# EAGLE library part XCV600E_FG900 (library xilinx-xcv)
xcv600e_fg900 edit this description Auto generated by make-symbol-device-package-bsdl.ulp Rev. 26 Source: xcv600e_fg900.bsd
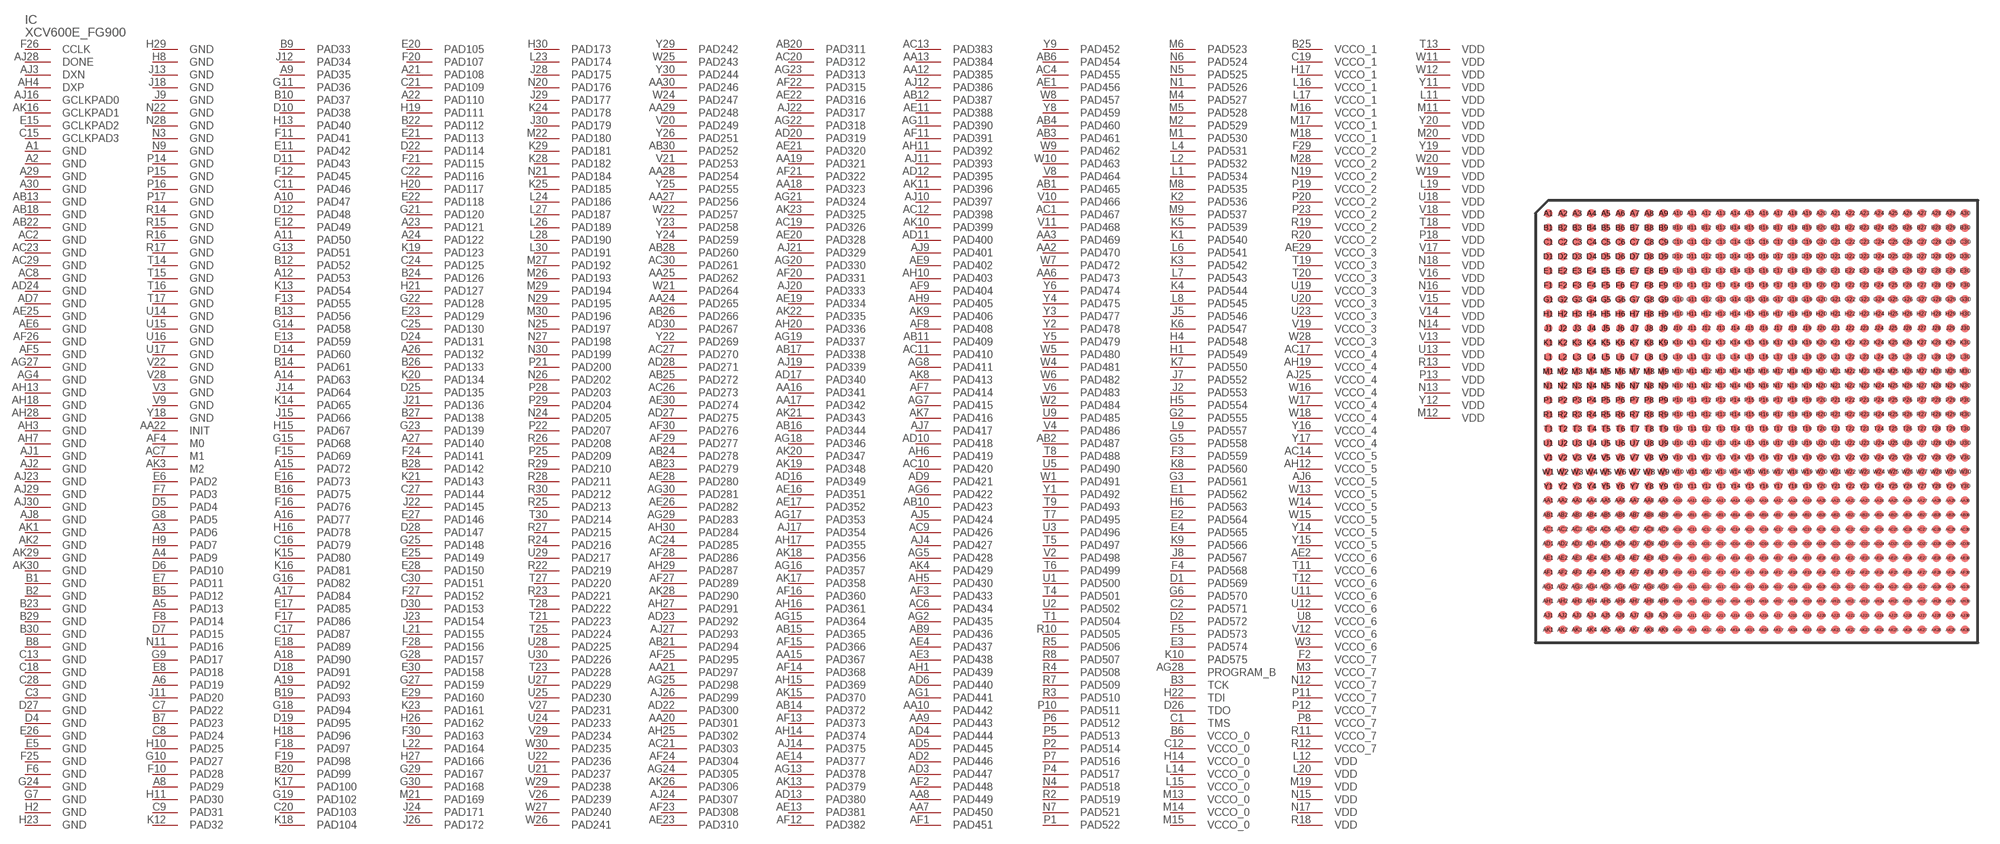
[diagram p118: symbol with the pads of FG900; footprint FG900]

Designator prefix IC

## XCV600E_FG900 (OC_FARNELL: unknown; OC_NEWARK: unknown)  [FG900]
A1  GND  pwr
A2  GND  pwr
A3  PAD6
A4  PAD9
A5  PAD13
A6  PAD19
A8  PAD29
A9  PAD35
A10  PAD47
A11  PAD50
A12  PAD53
A14  PAD63
A15  PAD72
A16  PAD77
A17  PAD84
A18  PAD90
A19  PAD92
A21  PAD108
A22  PAD110
A23  PAD121
A24  PAD122
A26  PAD132
A27  PAD140
A29  GND  pwr
A30  GND  pwr
AA2  PAD470
AA3  PAD469
AA6  PAD473
AA7  PAD450
AA8  PAD449
AA9  PAD443
AA10  PAD442
AA12  PAD385
AA13  PAD384
AA15  PAD367
AA16  PAD341
AA17  PAD342
AA18  PAD323
AA19  PAD321
AA20  PAD301
AA21  PAD297
AA22  INIT
AA24  PAD265
AA25  PAD262
AA27  PAD256
AA28  PAD254
AA29  PAD248
AA30  PAD246
AB1  PAD465
AB2  PAD487
AB3  PAD461
AB4  PAD460
AB6  PAD454
AB9  PAD436
AB10  PAD423
AB11  PAD409
AB12  PAD387
AB13  GND  pwr
AB14  PAD372
AB15  PAD365
AB16  PAD344
AB17  PAD338
AB18  GND  pwr
AB20  PAD311
AB21  PAD294
AB22  GND  pwr
AB23  PAD279
AB24  PAD278
AB25  PAD272
AB26  PAD266
AB28  PAD260
AB30  PAD252
AC1  PAD467
AC2  GND  pwr
AC4  PAD455
AC6  PAD434
AC7  M1  in
AC8  GND  pwr
AC9  PAD426
AC10  PAD420
AC11  PAD410
AC12  PAD398
AC13  PAD383
AC14  VCCO_5  pwr
AC17  VCCO_4  pwr
AC19  PAD326
AC20  PAD312
AC21  PAD303
AC23  GND  pwr
AC24  PAD285
AC26  PAD273
AC27  PAD270
AC29  GND  pwr
AC30  PAD261
AD2  PAD446
AD3  PAD447
AD4  PAD444
AD5  PAD445
AD6  PAD440
AD7  GND  pwr
AD9  PAD421
AD10  PAD418
AD11  PAD400
AD12  PAD395
AD13  PAD380
AD16  PAD349
AD17  PAD340
AD20  PAD319
AD22  PAD300
AD23  PAD292
AD24  GND  pwr
AD27  PAD275
AD28  PAD271
AD30  PAD267
AE1  PAD456
AE2  VCCO_6  pwr
AE3  PAD438
AE4  PAD437
AE6  GND  pwr
AE9  PAD402
AE11  PAD388
AE13  PAD381
AE14  PAD377
AE16  PAD351
AE17  PAD352
AE19  PAD334
AE20  PAD328
AE21  PAD320
AE22  PAD316
AE23  PAD310
AE25  GND  pwr
AE26  PAD282
AE28  PAD280
AE29  VCCO_3  pwr
AE30  PAD274
AF1  PAD451
AF2  PAD448
AF3  PAD433
AF4  M0  in
AF5  GND  pwr
AF7  PAD414
AF8  PAD408
AF9  PAD404
AF11  PAD391
AF12  PAD382
AF13  PAD373
AF14  PAD368
AF15  PAD366
AF16  PAD360
AF20  PAD331
AF21  PAD322
AF22  PAD315
AF23  PAD308
AF24  PAD304
AF25  PAD295
AF26  GND  pwr
AF27  PAD289
AF28  PAD286
AF29  PAD277
AF30  PAD276
AG1  PAD441
AG2  PAD435
AG4  GND  pwr
AG5  PAD428
AG6  PAD422
AG7  PAD415
AG8  PAD411
AG11  PAD390
AG13  PAD378
AG15  PAD364
AG16  PAD357
AG17  PAD353
AG18  PAD346
AG19  PAD337
AG20  PAD330
AG21  PAD324
AG22  PAD318
AG23  PAD313
AG24  PAD305
AG25  PAD298
AG27  GND  pwr
AG28  PROGRAM_B  in
AG29  PAD283
AG30  PAD281
AH1  PAD439
AH3  GND  pwr
AH4  DXP  pas
AH5  PAD430
AH6  PAD419
AH7  GND  pwr
AH9  PAD405
AH10  PAD403
AH11  PAD392
AH12  VCCO_5  pwr
AH13  GND  pwr
AH14  PAD374
AH15  PAD369
AH16  PAD361
AH17  PAD355
AH18  GND  pwr
AH19  VCCO_4  pwr
AH20  PAD336
AH25  PAD302
AH27  PAD291
AH28  GND  pwr
AH29  PAD287
AH30  PAD284
AJ1  GND  pwr
AJ2  GND  pwr
AJ3  DXN  pas
AJ4  PAD427
AJ5  PAD424
AJ6  VCCO_5  pwr
AJ7  PAD417
AJ8  GND  pwr
AJ9  PAD401
AJ10  PAD397
AJ11  PAD393
AJ12  PAD386
AJ14  PAD375
AJ16  GCLKPAD0  in
AJ17  PAD354
AJ19  PAD339
AJ20  PAD333
AJ21  PAD329
AJ22  PAD317
AJ23  GND  pwr
AJ24  PAD307
AJ25  VCCO_4  pwr
AJ26  PAD299
AJ27  PAD293
AJ28  DONE
AJ29  GND  pwr
AJ30  GND  pwr
AK1  GND  pwr
AK2  GND  pwr
AK3  M2  in
AK4  PAD429
AK7  PAD416
AK8  PAD413
AK9  PAD406
AK10  PAD399
AK11  PAD396
AK13  PAD379
AK15  PAD370
AK16  GCLKPAD1  in
AK17  PAD358
AK18  PAD356
AK19  PAD348
AK20  PAD347
AK21  PAD343
AK22  PAD335
AK23  PAD325
AK26  PAD306
AK28  PAD290
AK29  GND  pwr
AK30  GND  pwr
B1  GND  pwr
B2  GND  pwr
B3  TCK  in
B5  PAD12
B6  VCCO_0  pwr
B7  PAD23
B8  GND  pwr
B9  PAD33
B10  PAD37
B12  PAD52
B13  PAD56
B14  PAD61
B16  PAD75
B19  PAD93
B20  PAD99
B22  PAD112
B23  GND  pwr
B24  PAD126
B25  VCCO_1  pwr
B26  PAD133
B27  PAD138
B28  PAD142
B29  GND  pwr
B30  GND  pwr
C1  TMS  in
C2  PAD571
C3  GND  pwr
C7  PAD22
C8  PAD24
C9  PAD31
C11  PAD46
C12  VCCO_0  pwr
C13  GND  pwr
C15  GCLKPAD3  in
C16  PAD79
C17  PAD87
C18  GND  pwr
C19  VCCO_1  pwr
C20  PAD103
C21  PAD109
C22  PAD116
C24  PAD125
C25  PAD130
C27  PAD144
C28  GND  pwr
C30  PAD151
D1  PAD569
D2  PAD572
D4  GND  pwr
D5  PAD4
D6  PAD10
D7  PAD15
D10  PAD38
D11  PAD43
D12  PAD48
D14  PAD60
D18  PAD91
D19  PAD95
D22  PAD114
D24  PAD131
D25  PAD135
D26  TDO  out
D27  GND  pwr
D28  PAD147
D30  PAD153
E1  PAD562
E2  PAD564
E3  PAD574
E4  PAD565
E5  GND  pwr
E6  PAD2
E7  PAD11
E8  PAD18
E11  PAD42
E12  PAD49
E13  PAD59
E15  GCLKPAD2  in
E16  PAD73
E17  PAD85
E18  PAD89
E20  PAD105
E21  PAD113
E22  PAD118
E23  PAD129
E25  PAD149
E26  GND  pwr
E27  PAD146
E28  PAD150
E29  PAD160
E30  PAD158
F2  VCCO_7  pwr
F3  PAD559
F4  PAD568
F5  PAD573
F6  GND  pwr
F7  PAD3
F8  PAD14
F10  PAD28
F11  PAD41
F12  PAD45
F13  PAD55
F15  PAD69
F16  PAD76
F17  PAD86
F18  PAD97
F19  PAD98
F20  PAD107
F21  PAD115
F24  PAD141
F25  GND  pwr
F26  CCLK
F27  PAD152
F28  PAD156
F29  VCCO_2  pwr
F30  PAD163
G2  PAD555
G3  PAD561
G5  PAD558
G6  PAD570
G7  GND  pwr
G8  PAD5
G9  PAD17
G10  PAD27
G11  PAD36
G13  PAD51
G14  PAD58
G15  PAD68
G16  PAD82
G18  PAD94
G19  PAD102
G21  PAD120
G22  PAD128
G23  PAD139
G24  GND  pwr
G25  PAD148
G27  PAD159
G28  PAD157
G29  PAD167
G30  PAD168
H1  PAD549
H2  GND  pwr
H4  PAD548
H5  PAD554
H6  PAD563
H8  GND  pwr
H9  PAD7
H10  PAD25
H11  PAD30
H13  PAD40
H14  VCCO_0  pwr
H15  PAD67
H16  PAD78
H17  VCCO_1  pwr
H18  PAD96
H19  PAD111
H20  PAD117
H21  PAD127
H22  TDI  in
H23  GND  pwr
H26  PAD162
H27  PAD166
H29  GND  pwr
H30  PAD173
J2  PAD553
J5  PAD546
J7  PAD552
J8  PAD567
J9  GND  pwr
J11  PAD20
J12  PAD34
J13  GND  pwr
J14  PAD64
J15  PAD66
J18  GND  pwr
J21  PAD136
J22  PAD145
J23  PAD154
J24  PAD171
J26  PAD172
J28  PAD175
J29  PAD177
J30  PAD179
K1  PAD540
K2  PAD536
K3  PAD542
K4  PAD544
K5  PAD539
K6  PAD547
K7  PAD550
K8  PAD560
K9  PAD566
K10  PAD575
K12  PAD32
K13  PAD54
K14  PAD65
K15  PAD80
K16  PAD81
K17  PAD100
K18  PAD104
K19  PAD123
K20  PAD134
K21  PAD143
K23  PAD161
K24  PAD178
K25  PAD185
K28  PAD182
K29  PAD181
L1  PAD534
L2  PAD532
L4  PAD531
L6  PAD541
L7  PAD543
L8  PAD545
L9  PAD557
L11  VDD  pwr
L12  VDD  pwr
L14  VCCO_0  pwr
L15  VCCO_0  pwr
L16  VCCO_1  pwr
L17  VCCO_1  pwr
L19  VDD  pwr
L20  VDD  pwr
L21  PAD155
L22  PAD164
L23  PAD174
L24  PAD186
L26  PAD189
L27  PAD187
L28  PAD190
L30  PAD191
M1  PAD530
M2  PAD529
M3  VCCO_7  pwr
M4  PAD527
M5  PAD528
M6  PAD523
M8  PAD535
M9  PAD537
M11  VDD  pwr
M12  VDD  pwr
M13  VCCO_0  pwr
M14  VCCO_0  pwr
M15  VCCO_0  pwr
M16  VCCO_1  pwr
M17  VCCO_1  pwr
M18  VCCO_1  pwr
M19  VDD  pwr
M20  VDD  pwr
M21  PAD169
M22  PAD180
M26  PAD193
M27  PAD192
M28  VCCO_2  pwr
M29  PAD194
M30  PAD196
N1  PAD526
N3  GND  pwr
N4  PAD518
N5  PAD525
N6  PAD524
N7  PAD521
N9  GND  pwr
N11  PAD16
N12  VCCO_7  pwr
N13  VDD  pwr
N14  VDD  pwr
N15  VDD  pwr
N16  VDD  pwr
N17  VDD  pwr
N18  VDD  pwr
N19  VCCO_2  pwr
N20  PAD176
N21  PAD184
N22  GND  pwr
N24  PAD205
N25  PAD197
N26  PAD202
N27  PAD198
N28  GND  pwr
N29  PAD195
N30  PAD199
P1  PAD522
P2  PAD514
P4  PAD517
P5  PAD513
P6  PAD512
P7  PAD516
P8  VCCO_7  pwr
P10  PAD511
P11  VCCO_7  pwr
P12  VCCO_7  pwr
P13  VDD  pwr
P14  GND  pwr
P15  GND  pwr
P16  GND  pwr
P17  GND  pwr
P18  VDD  pwr
P19  VCCO_2  pwr
P20  VCCO_2  pwr
P21  PAD200
P22  PAD207
P23  VCCO_2  pwr
P25  PAD209
P28  PAD203
P29  PAD204
R2  PAD519
R3  PAD510
R4  PAD508
R5  PAD506
R7  PAD509
R8  PAD507
R10  PAD505
R11  VCCO_7  pwr
R12  VCCO_7  pwr
R13  VDD  pwr
R14  GND  pwr
R15  GND  pwr
R16  GND  pwr
R17  GND  pwr
R18  VDD  pwr
R19  VCCO_2  pwr
R20  VCCO_2  pwr
R22  PAD219
R23  PAD221
R24  PAD216
R25  PAD213
R26  PAD208
R27  PAD215
R28  PAD211
R29  PAD210
R30  PAD212
T1  PAD504
T4  PAD501
T5  PAD497
T6  PAD499
T7  PAD495
T8  PAD488
T9  PAD493
T11  VCCO_6  pwr
T12  VCCO_6  pwr
T13  VDD  pwr
T14  GND  pwr
T15  GND  pwr
T16  GND  pwr
T17  GND  pwr
T18  VDD  pwr
T19  VCCO_3  pwr
T20  VCCO_3  pwr
T21  PAD223
T23  PAD228
T25  PAD224
T27  PAD220
T28  PAD222
T30  PAD214
U1  PAD500
U2  PAD502
U3  PAD496
U5  PAD490
U8  VCCO_6  pwr
U9  PAD485
U11  VCCO_6  pwr
U12  VCCO_6  pwr
U13  VDD  pwr
U14  GND  pwr
U15  GND  pwr
U16  GND  pwr
U17  GND  pwr
U18  VDD  pwr
U19  VCCO_3  pwr
U20  VCCO_3  pwr
U21  PAD237
U22  PAD236
U23  VCCO_3  pwr
U24  PAD233
U25  PAD230
U27  PAD229
U28  PAD225
U29  PAD217
U30  PAD226
V2  PAD498
V3  GND  pwr
V4  PAD486
V6  PAD483
V8  PAD464
V9  GND  pwr
V10  PAD466
V11  PAD468
V12  VCCO_6  pwr
V13  VDD  pwr
V14  VDD  pwr
V15  VDD  pwr
V16  VDD  pwr
V17  VDD  pwr
V18  VDD  pwr
V19  VCCO_3  pwr
V20  PAD249
V21  PAD253
V22  GND  pwr
V26  PAD239
V27  PAD231
V28  GND  pwr
V29  PAD234
W1  PAD491
W2  PAD484
W3  VCCO_6  pwr
W4  PAD481
W5  PAD480
W6  PAD482
W7  PAD472
W8  PAD457
W9  PAD462
W10  PAD463
W11  VDD  pwr
W12  VDD  pwr
W13  VCCO_5  pwr
W14  VCCO_5  pwr
W15  VCCO_5  pwr
W16  VCCO_4  pwr
W17  VCCO_4  pwr
W18  VCCO_4  pwr
W19  VDD  pwr
W20  VDD  pwr
W21  PAD264
W22  PAD257
W24  PAD247
W25  PAD243
W26  PAD241
W27  PAD240
W28  VCCO_3  pwr
W29  PAD238
W30  PAD235
Y1  PAD492
Y2  PAD478
Y3  PAD477
Y4  PAD475
Y5  PAD479
Y6  PAD474
Y8  PAD459
Y9  PAD452
Y11  VDD  pwr
Y12  VDD  pwr
Y14  VCCO_5  pwr
Y15  VCCO_5  pwr
Y16  VCCO_4  pwr
Y17  VCCO_4  pwr
Y18  GND  pwr
Y19  VDD  pwr
Y20  VDD  pwr
Y22  PAD269
Y23  PAD258
Y24  PAD259
Y25  PAD255
Y26  PAD251
Y29  PAD242
Y30  PAD244

## Footprint FG900 (pad centres in mm)
xcv1000e_fg900_1532 edit this description Auto generated by make-symbol-device-package-bsdl.ulp Rev. 26 Source: xcv1000e_fg900_1532.bsd
smd 0.6 x 0.6: A1 -14.5,14.5; A2 -13.5,14.5; A3 -12.5,14.5; A4 -11.5,14.5; A5 -10.5,14.5; A6 -9.5,14.5; A7 -8.5,14.5; A8 -7.5,14.5; A9 -6.5,14.5; A10 -5.5,14.5; A11 -4.5,14.5; A12 -3.5,14.5; A13 -2.5,14.5; A14 -1.5,14.5; A15 -0.5,14.5; A16 0.5,14.5; A17 1.5,14.5; A18 2.5,14.5; A19 3.5,14.5; A20 4.5,14.5; A21 5.5,14.5; A22 6.5,14.5; A23 7.5,14.5; A24 8.5,14.5; A25 9.5,14.5; A26 10.5,14.5; A27 11.5,14.5; A28 12.5,14.5; A29 13.5,14.5; A30 14.5,14.5; AA1 -14.5,-5.5; AA2 -13.5,-5.5; AA3 -12.5,-5.5; AA4 -11.5,-5.5; AA5 -10.5,-5.5; AA6 -9.5,-5.5; AA7 -8.5,-5.5; AA8 -7.5,-5.5; AA9 -6.5,-5.5; AA10 -5.5,-5.5; AA11 -4.5,-5.5; AA12 -3.5,-5.5; AA13 -2.5,-5.5; AA14 -1.5,-5.5; AA15 -0.5,-5.5; AA16 0.5,-5.5; AA17 1.5,-5.5; AA18 2.5,-5.5; AA19 3.5,-5.5; AA20 4.5,-5.5; AA21 5.5,-5.5; AA22 6.5,-5.5; AA23 7.5,-5.5; AA24 8.5,-5.5; AA25 9.5,-5.5; AA26 10.5,-5.5; AA27 11.5,-5.5; AA28 12.5,-5.5; AA29 13.5,-5.5; AA30 14.5,-5.5; AB1 -14.5,-6.5; AB2 -13.5,-6.5; AB3 -12.5,-6.5; AB4 -11.5,-6.5; AB5 -10.5,-6.5; AB6 -9.5,-6.5; AB7 -8.5,-6.5; AB8 -7.5,-6.5; AB9 -6.5,-6.5; AB10 -5.5,-6.5; AB11 -4.5,-6.5; AB12 -3.5,-6.5; AB13 -2.5,-6.5; AB14 -1.5,-6.5; AB15 -0.5,-6.5; AB16 0.5,-6.5; AB17 1.5,-6.5; AB18 2.5,-6.5; AB19 3.5,-6.5; AB20 4.5,-6.5; AB21 5.5,-6.5; AB22 6.5,-6.5; AB23 7.5,-6.5; AB24 8.5,-6.5; AB25 9.5,-6.5; AB26 10.5,-6.5; AB27 11.5,-6.5; AB28 12.5,-6.5; AB29 13.5,-6.5; AB30 14.5,-6.5; AC1 -14.5,-7.5; AC2 -13.5,-7.5; AC3 -12.5,-7.5; AC4 -11.5,-7.5; AC5 -10.5,-7.5; AC6 -9.5,-7.5; AC7 -8.5,-7.5; AC8 -7.5,-7.5; AC9 -6.5,-7.5; AC10 -5.5,-7.5; AC11 -4.5,-7.5; AC12 -3.5,-7.5; AC13 -2.5,-7.5; AC14 -1.5,-7.5; AC15 -0.5,-7.5; AC16 0.5,-7.5; AC17 1.5,-7.5; AC18 2.5,-7.5; AC19 3.5,-7.5; AC20 4.5,-7.5; AC21 5.5,-7.5; AC22 6.5,-7.5; AC23 7.5,-7.5; AC24 8.5,-7.5; AC25 9.5,-7.5; AC26 10.5,-7.5; AC27 11.5,-7.5; AC28 12.5,-7.5; AC29 13.5,-7.5; AC30 14.5,-7.5; AD1 -14.5,-8.5; AD2 -13.5,-8.5; AD3 -12.5,-8.5; AD4 -11.5,-8.5; AD5 -10.5,-8.5; AD6 -9.5,-8.5; AD7 -8.5,-8.5; AD8 -7.5,-8.5; AD9 -6.5,-8.5; AD10 -5.5,-8.5; AD11 -4.5,-8.5; AD12 -3.5,-8.5; AD13 -2.5,-8.5; AD14 -1.5,-8.5; AD15 -0.5,-8.5; AD16 0.5,-8.5; AD17 1.5,-8.5; AD18 2.5,-8.5; AD19 3.5,-8.5; AD20 4.5,-8.5; AD21 5.5,-8.5; AD22 6.5,-8.5; AD23 7.5,-8.5; AD24 8.5,-8.5; AD25 9.5,-8.5; AD26 10.5,-8.5; AD27 11.5,-8.5; AD28 12.5,-8.5; AD29 13.5,-8.5; AD30 14.5,-8.5; AE1 -14.5,-9.5; AE2 -13.5,-9.5; AE3 -12.5,-9.5; AE4 -11.5,-9.5; AE5 -10.5,-9.5; AE6 -9.5,-9.5; AE7 -8.5,-9.5; AE8 -7.5,-9.5; AE9 -6.5,-9.5; AE10 -5.5,-9.5; AE11 -4.5,-9.5; AE12 -3.5,-9.5; AE13 -2.5,-9.5; AE14 -1.5,-9.5; AE15 -0.5,-9.5; AE16 0.5,-9.5; AE17 1.5,-9.5; AE18 2.5,-9.5; AE19 3.5,-9.5; AE20 4.5,-9.5; AE21 5.5,-9.5; AE22 6.5,-9.5; AE23 7.5,-9.5; AE24 8.5,-9.5; AE25 9.5,-9.5; AE26 10.5,-9.5; AE27 11.5,-9.5; AE28 12.5,-9.5; AE29 13.5,-9.5; AE30 14.5,-9.5; AF1 -14.5,-10.5; AF2 -13.5,-10.5; AF3 -12.5,-10.5; AF4 -11.5,-10.5; AF5 -10.5,-10.5; AF6 -9.5,-10.5; AF7 -8.5,-10.5; AF8 -7.5,-10.5; AF9 -6.5,-10.5; AF10 -5.5,-10.5; AF11 -4.5,-10.5; AF12 -3.5,-10.5; AF13 -2.5,-10.5; AF14 -1.5,-10.5; AF15 -0.5,-10.5; AF16 0.5,-10.5; AF17 1.5,-10.5; AF18 2.5,-10.5; AF19 3.5,-10.5; AF20 4.5,-10.5; AF21 5.5,-10.5; AF22 6.5,-10.5; AF23 7.5,-10.5; AF24 8.5,-10.5; AF25 9.5,-10.5; AF26 10.5,-10.5; AF27 11.5,-10.5; AF28 12.5,-10.5; AF29 13.5,-10.5; AF30 14.5,-10.5; AG1 -14.5,-11.5; AG2 -13.5,-11.5; AG3 -12.5,-11.5; AG4 -11.5,-11.5; AG5 -10.5,-11.5; AG6 -9.5,-11.5; AG7 -8.5,-11.5; AG8 -7.5,-11.5; AG9 -6.5,-11.5; AG10 -5.5,-11.5; AG11 -4.5,-11.5; AG12 -3.5,-11.5; AG13 -2.5,-11.5; AG14 -1.5,-11.5; AG15 -0.5,-11.5; AG16 0.5,-11.5; AG17 1.5,-11.5; AG18 2.5,-11.5; AG19 3.5,-11.5; AG20 4.5,-11.5; AG21 5.5,-11.5; AG22 6.5,-11.5; AG23 7.5,-11.5; AG24 8.5,-11.5; AG25 9.5,-11.5; AG26 10.5,-11.5; AG27 11.5,-11.5; AG28 12.5,-11.5; AG29 13.5,-11.5; AG30 14.5,-11.5; AH1 -14.5,-12.5; AH2 -13.5,-12.5; AH3 -12.5,-12.5; AH4 -11.5,-12.5; AH5 -10.5,-12.5; AH6 -9.5,-12.5; AH7 -8.5,-12.5; AH8 -7.5,-12.5; AH9 -6.5,-12.5; AH10 -5.5,-12.5; AH11 -4.5,-12.5; AH12 -3.5,-12.5; AH13 -2.5,-12.5; AH14 -1.5,-12.5; AH15 -0.5,-12.5; AH16 0.5,-12.5; AH17 1.5,-12.5; AH18 2.5,-12.5; AH19 3.5,-12.5; AH20 4.5,-12.5; AH21 5.5,-12.5; AH22 6.5,-12.5; AH23 7.5,-12.5; AH24 8.5,-12.5; AH25 9.5,-12.5; AH26 10.5,-12.5; AH27 11.5,-12.5; AH28 12.5,-12.5; AH29 13.5,-12.5; AH30 14.5,-12.5; AJ1 -14.5,-13.5; AJ2 -13.5,-13.5; AJ3 -12.5,-13.5; AJ4 -11.5,-13.5; AJ5 -10.5,-13.5; AJ6 -9.5,-13.5; AJ7 -8.5,-13.5; AJ8 -7.5,-13.5; AJ9 -6.5,-13.5; AJ10 -5.5,-13.5; AJ11 -4.5,-13.5; AJ12 -3.5,-13.5; AJ13 -2.5,-13.5; AJ14 -1.5,-13.5; AJ15 -0.5,-13.5; AJ16 0.5,-13.5; AJ17 1.5,-13.5; AJ18 2.5,-13.5; AJ19 3.5,-13.5; AJ20 4.5,-13.5; AJ21 5.5,-13.5; AJ22 6.5,-13.5; AJ23 7.5,-13.5; AJ24 8.5,-13.5; AJ25 9.5,-13.5; AJ26 10.5,-13.5; AJ27 11.5,-13.5; AJ28 12.5,-13.5; AJ29 13.5,-13.5; AJ30 14.5,-13.5; AK1 -14.5,-14.5; AK2 -13.5,-14.5; AK3 -12.5,-14.5; AK4 -11.5,-14.5; AK5 -10.5,-14.5; AK6 -9.5,-14.5; AK7 -8.5,-14.5; AK8 -7.5,-14.5; AK9 -6.5,-14.5; AK10 -5.5,-14.5; AK11 -4.5,-14.5; AK12 -3.5,-14.5; AK13 -2.5,-14.5; AK14 -1.5,-14.5; AK15 -0.5,-14.5; AK16 0.5,-14.5; AK17 1.5,-14.5; AK18 2.5,-14.5; AK19 3.5,-14.5; AK20 4.5,-14.5; AK21 5.5,-14.5; AK22 6.5,-14.5; AK23 7.5,-14.5; AK24 8.5,-14.5; AK25 9.5,-14.5; AK26 10.5,-14.5; AK27 11.5,-14.5; AK28 12.5,-14.5; AK29 13.5,-14.5; AK30 14.5,-14.5; B1 -14.5,13.5; B2 -13.5,13.5; B3 -12.5,13.5; B4 -11.5,13.5; B5 -10.5,13.5; B6 -9.5,13.5; B7 -8.5,13.5; B8 -7.5,13.5; B9 -6.5,13.5; B10 -5.5,13.5; B11 -4.5,13.5; B12 -3.5,13.5; B13 -2.5,13.5; B14 -1.5,13.5; B15 -0.5,13.5; B16 0.5,13.5; B17 1.5,13.5; B18 2.5,13.5; B19 3.5,13.5; B20 4.5,13.5; B21 5.5,13.5; B22 6.5,13.5; B23 7.5,13.5; B24 8.5,13.5; B25 9.5,13.5; B26 10.5,13.5; B27 11.5,13.5; B28 12.5,13.5; B29 13.5,13.5; B30 14.5,13.5; C1 -14.5,12.5; C2 -13.5,12.5; C3 -12.5,12.5; C4 -11.5,12.5; C5 -10.5,12.5; C6 -9.5,12.5; C7 -8.5,12.5; C8 -7.5,12.5; C9 -6.5,12.5; C10 -5.5,12.5; C11 -4.5,12.5; C12 -3.5,12.5; C13 -2.5,12.5; C14 -1.5,12.5; C15 -0.5,12.5; C16 0.5,12.5; C17 1.5,12.5; C18 2.5,12.5; C19 3.5,12.5; C20 4.5,12.5; C21 5.5,12.5; C22 6.5,12.5; C23 7.5,12.5; C24 8.5,12.5; C25 9.5,12.5; C26 10.5,12.5; C27 11.5,12.5; C28 12.5,12.5; C29 13.5,12.5; C30 14.5,12.5; D1 -14.5,11.5; D2 -13.5,11.5; D3 -12.5,11.5; D4 -11.5,11.5; D5 -10.5,11.5; D6 -9.5,11.5; D7 -8.5,11.5; D8 -7.5,11.5; D9 -6.5,11.5; D10 -5.5,11.5; D11 -4.5,11.5; D12 -3.5,11.5; D13 -2.5,11.5; D14 -1.5,11.5; D15 -0.5,11.5; D16 0.5,11.5; D17 1.5,11.5; D18 2.5,11.5; D19 3.5,11.5; D20 4.5,11.5; D21 5.5,11.5; D22 6.5,11.5; D23 7.5,11.5; D24 8.5,11.5; D25 9.5,11.5; D26 10.5,11.5; D27 11.5,11.5; D28 12.5,11.5; D29 13.5,11.5; D30 14.5,11.5; E1 -14.5,10.5; E2 -13.5,10.5; E3 -12.5,10.5; E4 -11.5,10.5; E5 -10.5,10.5; E6 -9.5,10.5; E7 -8.5,10.5; E8 -7.5,10.5; E9 -6.5,10.5; E10 -5.5,10.5; E11 -4.5,10.5; E12 -3.5,10.5; E13 -2.5,10.5; E14 -1.5,10.5; E15 -0.5,10.5; E16 0.5,10.5; E17 1.5,10.5; E18 2.5,10.5; E19 3.5,10.5; E20 4.5,10.5; E21 5.5,10.5; E22 6.5,10.5; E23 7.5,10.5; E24 8.5,10.5; E25 9.5,10.5; E26 10.5,10.5; E27 11.5,10.5; E28 12.5,10.5; E29 13.5,10.5; E30 14.5,10.5; F1 -14.5,9.5; F2 -13.5,9.5; F3 -12.5,9.5; F4 -11.5,9.5; F5 -10.5,9.5; F6 -9.5,9.5; F7 -8.5,9.5; F8 -7.5,9.5; F9 -6.5,9.5; F10 -5.5,9.5; F11 -4.5,9.5; F12 -3.5,9.5; F13 -2.5,9.5; F14 -1.5,9.5; F15 -0.5,9.5; F16 0.5,9.5; F17 1.5,9.5; F18 2.5,9.5; F19 3.5,9.5; F20 4.5,9.5; F21 5.5,9.5; F22 6.5,9.5; F23 7.5,9.5; F24 8.5,9.5; F25 9.5,9.5; F26 10.5,9.5; F27 11.5,9.5; F28 12.5,9.5; F29 13.5,9.5; F30 14.5,9.5; G1 -14.5,8.5; G2 -13.5,8.5; G3 -12.5,8.5; G4 -11.5,8.5; G5 -10.5,8.5; G6 -9.5,8.5; G7 -8.5,8.5; G8 -7.5,8.5; G9 -6.5,8.5; G10 -5.5,8.5; G11 -4.5,8.5; G12 -3.5,8.5; G13 -2.5,8.5; G14 -1.5,8.5; G15 -0.5,8.5; G16 0.5,8.5; G17 1.5,8.5; G18 2.5,8.5; G19 3.5,8.5; G20 4.5,8.5; G21 5.5,8.5; G22 6.5,8.5; G23 7.5,8.5; G24 8.5,8.5; G25 9.5,8.5; G26 10.5,8.5; G27 11.5,8.5; G28 12.5,8.5; G29 13.5,8.5; G30 14.5,8.5; H1 -14.5,7.5; H2 -13.5,7.5; H3 -12.5,7.5; H4 -11.5,7.5; H5 -10.5,7.5; H6 -9.5,7.5; H7 -8.5,7.5; H8 -7.5,7.5; H9 -6.5,7.5; H10 -5.5,7.5; H11 -4.5,7.5; H12 -3.5,7.5; H13 -2.5,7.5; H14 -1.5,7.5; H15 -0.5,7.5; H16 0.5,7.5; H17 1.5,7.5; H18 2.5,7.5; H19 3.5,7.5; H20 4.5,7.5; H21 5.5,7.5; H22 6.5,7.5; H23 7.5,7.5; H24 8.5,7.5; H25 9.5,7.5; H26 10.5,7.5; H27 11.5,7.5; H28 12.5,7.5; H29 13.5,7.5; H30 14.5,7.5; J1 -14.5,6.5; J2 -13.5,6.5; J3 -12.5,6.5; J4 -11.5,6.5; J5 -10.5,6.5; J6 -9.5,6.5; J7 -8.5,6.5; J8 -7.5,6.5; J9 -6.5,6.5; J10 -5.5,6.5; J11 -4.5,6.5; J12 -3.5,6.5; J13 -2.5,6.5; J14 -1.5,6.5; J15 -0.5,6.5; J16 0.5,6.5; J17 1.5,6.5; J18 2.5,6.5; J19 3.5,6.5; J20 4.5,6.5; J21 5.5,6.5; J22 6.5,6.5; J23 7.5,6.5; J24 8.5,6.5; J25 9.5,6.5; J26 10.5,6.5; J27 11.5,6.5; J28 12.5,6.5; J29 13.5,6.5; J30 14.5,6.5; K1 -14.5,5.5; K2 -13.5,5.5; K3 -12.5,5.5; K4 -11.5,5.5; K5 -10.5,5.5; K6 -9.5,5.5; K7 -8.5,5.5; K8 -7.5,5.5; K9 -6.5,5.5; K10 -5.5,5.5; K11 -4.5,5.5; K12 -3.5,5.5; K13 -2.5,5.5; K14 -1.5,5.5; K15 -0.5,5.5; K16 0.5,5.5; K17 1.5,5.5; K18 2.5,5.5; K19 3.5,5.5; K20 4.5,5.5; K21 5.5,5.5; K22 6.5,5.5; K23 7.5,5.5; K24 8.5,5.5; K25 9.5,5.5; K26 10.5,5.5; K27 11.5,5.5; K28 12.5,5.5; K29 13.5,5.5; K30 14.5,5.5; L1 -14.5,4.5; L2 -13.5,4.5; L3 -12.5,4.5; L4 -11.5,4.5; L5 -10.5,4.5; L6 -9.5,4.5; L7 -8.5,4.5; L8 -7.5,4.5; L9 -6.5,4.5; L10 -5.5,4.5; L11 -4.5,4.5; L12 -3.5,4.5; L13 -2.5,4.5; L14 -1.5,4.5; L15 -0.5,4.5; L16 0.5,4.5; L17 1.5,4.5; L18 2.5,4.5; L19 3.5,4.5; L20 4.5,4.5; L21 5.5,4.5; L22 6.5,4.5; L23 7.5,4.5; L24 8.5,4.5; L25 9.5,4.5; L26 10.5,4.5; L27 11.5,4.5; L28 12.5,4.5; L29 13.5,4.5; L30 14.5,4.5; M1 -14.5,3.5; M2 -13.5,3.5; M3 -12.5,3.5; M4 -11.5,3.5; M5 -10.5,3.5; M6 -9.5,3.5; M7 -8.5,3.5; M8 -7.5,3.5; M9 -6.5,3.5; M10 -5.5,3.5; M11 -4.5,3.5; M12 -3.5,3.5; M13 -2.5,3.5; M14 -1.5,3.5; M15 -0.5,3.5; M16 0.5,3.5; M17 1.5,3.5; M18 2.5,3.5; M19 3.5,3.5; M20 4.5,3.5; M21 5.5,3.5; M22 6.5,3.5; M23 7.5,3.5; M24 8.5,3.5; M25 9.5,3.5; M26 10.5,3.5; M27 11.5,3.5; M28 12.5,3.5; M29 13.5,3.5; M30 14.5,3.5; N1 -14.5,2.5; N2 -13.5,2.5; N3 -12.5,2.5; N4 -11.5,2.5; N5 -10.5,2.5; N6 -9.5,2.5; N7 -8.5,2.5; N8 -7.5,2.5; N9 -6.5,2.5; N10 -5.5,2.5; N11 -4.5,2.5; N12 -3.5,2.5; N13 -2.5,2.5; N14 -1.5,2.5; N15 -0.5,2.5; N16 0.5,2.5; N17 1.5,2.5; N18 2.5,2.5; N19 3.5,2.5; N20 4.5,2.5; N21 5.5,2.5; N22 6.5,2.5; N23 7.5,2.5; N24 8.5,2.5; N25 9.5,2.5; N26 10.5,2.5; N27 11.5,2.5; N28 12.5,2.5; N29 13.5,2.5; N30 14.5,2.5; P1 -14.5,1.5; P2 -13.5,1.5; P3 -12.5,1.5; P4 -11.5,1.5; P5 -10.5,1.5; P6 -9.5,1.5; P7 -8.5,1.5; P8 -7.5,1.5; P9 -6.5,1.5; P10 -5.5,1.5; P11 -4.5,1.5; P12 -3.5,1.5; P13 -2.5,1.5; P14 -1.5,1.5; P15 -0.5,1.5; P16 0.5,1.5; P17 1.5,1.5; P18 2.5,1.5; P19 3.5,1.5; P20 4.5,1.5; P21 5.5,1.5; P22 6.5,1.5; P23 7.5,1.5; P24 8.5,1.5; P25 9.5,1.5; P26 10.5,1.5; P27 11.5,1.5; P28 12.5,1.5; P29 13.5,1.5; P30 14.5,1.5; R1 -14.5,0.5; R2 -13.5,0.5; R3 -12.5,0.5; R4 -11.5,0.5; R5 -10.5,0.5; R6 -9.5,0.5; R7 -8.5,0.5; R8 -7.5,0.5; R9 -6.5,0.5; R10 -5.5,0.5; R11 -4.5,0.5; R12 -3.5,0.5; R13 -2.5,0.5; R14 -1.5,0.5; R15 -0.5,0.5; R16 0.5,0.5; R17 1.5,0.5; R18 2.5,0.5; R19 3.5,0.5; R20 4.5,0.5; R21 5.5,0.5; R22 6.5,0.5; R23 7.5,0.5; R24 8.5,0.5; R25 9.5,0.5; R26 10.5,0.5; R27 11.5,0.5; R28 12.5,0.5; R29 13.5,0.5; R30 14.5,0.5; T1 -14.5,-0.5; T2 -13.5,-0.5; T3 -12.5,-0.5; T4 -11.5,-0.5; T5 -10.5,-0.5; T6 -9.5,-0.5; T7 -8.5,-0.5; T8 -7.5,-0.5; T9 -6.5,-0.5; T10 -5.5,-0.5; T11 -4.5,-0.5; T12 -3.5,-0.5; T13 -2.5,-0.5; T14 -1.5,-0.5; T15 -0.5,-0.5; T16 0.5,-0.5; T17 1.5,-0.5; T18 2.5,-0.5; T19 3.5,-0.5; T20 4.5,-0.5; T21 5.5,-0.5; T22 6.5,-0.5; T23 7.5,-0.5; T24 8.5,-0.5; T25 9.5,-0.5; T26 10.5,-0.5; T27 11.5,-0.5; T28 12.5,-0.5; T29 13.5,-0.5; T30 14.5,-0.5; U1 -14.5,-1.5; U2 -13.5,-1.5; U3 -12.5,-1.5; U4 -11.5,-1.5; U5 -10.5,-1.5; U6 -9.5,-1.5; U7 -8.5,-1.5; U8 -7.5,-1.5; U9 -6.5,-1.5; U10 -5.5,-1.5; U11 -4.5,-1.5; U12 -3.5,-1.5; U13 -2.5,-1.5; U14 -1.5,-1.5; U15 -0.5,-1.5; U16 0.5,-1.5; U17 1.5,-1.5; U18 2.5,-1.5; U19 3.5,-1.5; U20 4.5,-1.5; U21 5.5,-1.5; U22 6.5,-1.5; U23 7.5,-1.5; U24 8.5,-1.5; U25 9.5,-1.5; U26 10.5,-1.5; U27 11.5,-1.5; U28 12.5,-1.5; U29 13.5,-1.5; U30 14.5,-1.5; V1 -14.5,-2.5; V2 -13.5,-2.5; V3 -12.5,-2.5; V4 -11.5,-2.5; V5 -10.5,-2.5; V6 -9.5,-2.5; V7 -8.5,-2.5; V8 -7.5,-2.5; V9 -6.5,-2.5; V10 -5.5,-2.5; V11 -4.5,-2.5; V12 -3.5,-2.5; V13 -2.5,-2.5; V14 -1.5,-2.5; V15 -0.5,-2.5; V16 0.5,-2.5; V17 1.5,-2.5; V18 2.5,-2.5; V19 3.5,-2.5; V20 4.5,-2.5; V21 5.5,-2.5; V22 6.5,-2.5; V23 7.5,-2.5; V24 8.5,-2.5; V25 9.5,-2.5; V26 10.5,-2.5; V27 11.5,-2.5; V28 12.5,-2.5; V29 13.5,-2.5; V30 14.5,-2.5; W1 -14.5,-3.5; W2 -13.5,-3.5; W3 -12.5,-3.5; W4 -11.5,-3.5; W5 -10.5,-3.5; W6 -9.5,-3.5; W7 -8.5,-3.5; W8 -7.5,-3.5; W9 -6.5,-3.5; W10 -5.5,-3.5; W11 -4.5,-3.5; W12 -3.5,-3.5; W13 -2.5,-3.5; W14 -1.5,-3.5; W15 -0.5,-3.5; W16 0.5,-3.5; W17 1.5,-3.5; W18 2.5,-3.5; W19 3.5,-3.5; W20 4.5,-3.5; W21 5.5,-3.5; W22 6.5,-3.5; W23 7.5,-3.5; W24 8.5,-3.5; W25 9.5,-3.5; W26 10.5,-3.5; W27 11.5,-3.5; W28 12.5,-3.5; W29 13.5,-3.5; W30 14.5,-3.5; Y1 -14.5,-4.5; Y2 -13.5,-4.5; Y3 -12.5,-4.5; Y4 -11.5,-4.5; Y5 -10.5,-4.5; Y6 -9.5,-4.5; Y7 -8.5,-4.5; Y8 -7.5,-4.5; Y9 -6.5,-4.5; Y10 -5.5,-4.5; Y11 -4.5,-4.5; Y12 -3.5,-4.5; Y13 -2.5,-4.5; Y14 -1.5,-4.5; Y15 -0.5,-4.5; Y16 0.5,-4.5; Y17 1.5,-4.5; Y18 2.5,-4.5; Y19 3.5,-4.5; Y20 4.5,-4.5; Y21 5.5,-4.5; Y22 6.5,-4.5; Y23 7.5,-4.5; Y24 8.5,-4.5; Y25 9.5,-4.5; Y26 10.5,-4.5; Y27 11.5,-4.5; Y28 12.5,-4.5; Y29 13.5,-4.5; Y30 14.5,-4.5